# Altium footprint library Capacitor.PcbLib: 45 footprints (part 2 of 3)
Each footprint in its own frame and in the unit in brackets; x right, y up, seen from the top. Pads: shape width x height; smd on the part's side, far side on the other; paste and mask are expansions set on the pad; w line width, h text height; cw(c..) or ccw(c..) is an arc to the next point about the centre after c.
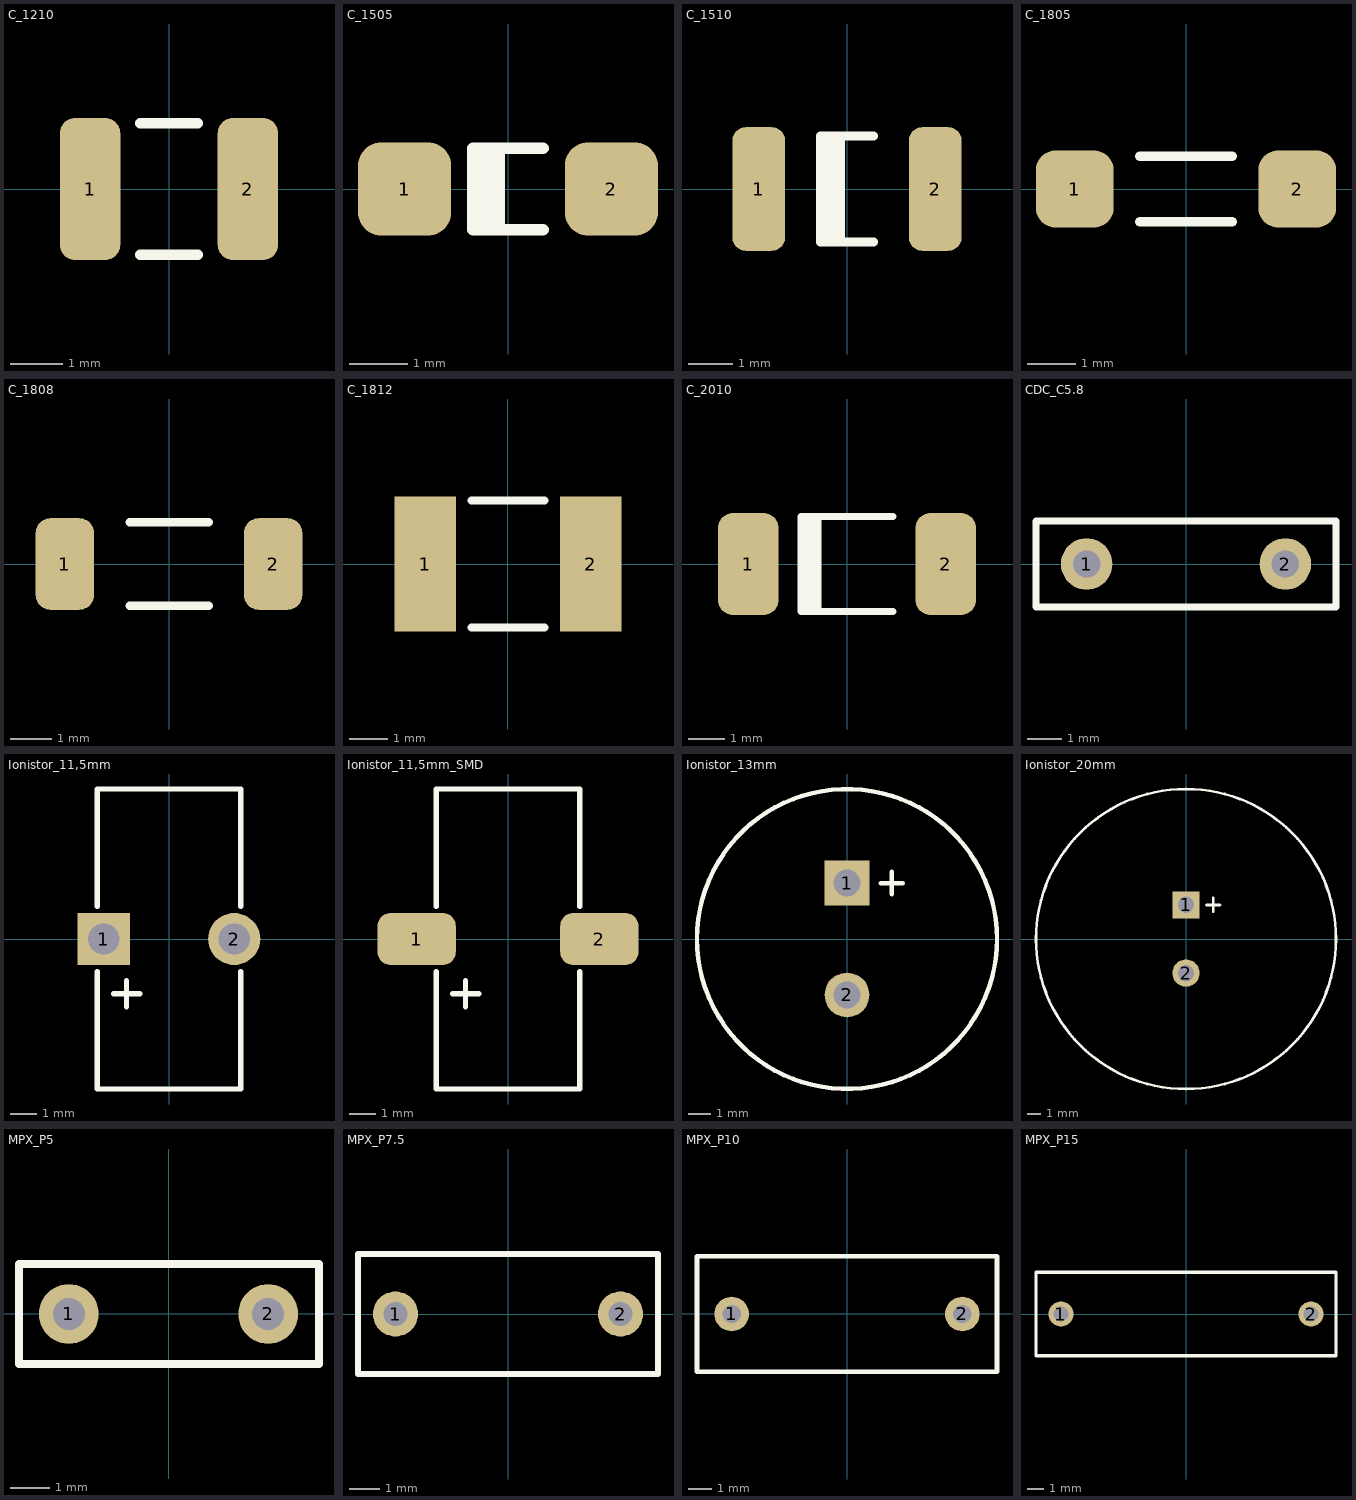
[diagram p1: the footprints below, top view; thin cyan lines are the x and y axes]

## C_1210 [mm] "Ceramic Capacitors SMD"
height 3.048
pads (2):
  rrect50% 1.15x2.7 smd: 1(-1.5,0) 2(1.5,0)
Top Overlay:
  lines w0.2: -0.55,-1.25 0.55,-1.25 ; -0.55,1.25 0.55,1.25
3D body: height 1, standoff 0, extent -1.7,-1.35 -1.2,1.35
3D body: height 1, standoff 0, extent 1.2,-1.35 1.7,1.35
3D body: height 1, standoff 0, extent -1.2,-1.35 1.2,1.35

## C_1505 [mm] "Ceramic Capacitors SMD"
height 3.048
pads (2):
  rrect50% 1.6x1.6 smd: 1(-1.775,0) 2(1.775,0)
Top Overlay:
  rectangle: -0.6,-0.7 -0.05,0.7
  lines w0.2: 0.6,-0.7 -0.6,-0.7 -0.6,0.7 0.6,0.7
3D body: height 1.65, standoff 0, extent 1.34,-0.825 2.1,0.825
3D body: height 1.65, standoff 0, extent -2.1,-0.825 -1.34,0.825
3D body: height 1.65, standoff 0, extent -1.34,-0.825 1.34,0.825

## C_1510 [mm] "Ceramic Capacitors SMD"
height 3.048
pads (2):
  rrect50% 1.2x2.8 smd: 1(-2,0) 2(2,0)
Top Overlay:
  rectangle: -0.6,-1.2 -0.05,1.2
  lines w0.2: 0.6,-1.2 -0.6,-1.2 -0.6,1.2 0.6,1.2
3D body: height 1.65, standoff 0, extent 1.34,-1.45 2.1,1.45
3D body: height 1.65, standoff 0, extent -2.1,-1.45 -1.34,1.45
3D body: height 1.65, standoff 0, extent -1.34,-1.45 1.34,1.45

## C_1805 [mm] "Ceramic Capacitors SMD"
height 3.048
pads (2):
  rrect50% 1.6x1.6 smd: 1(-2.3,0) 2(2.3,0)
Top Overlay:
  lines w0.2: -0.95,-0.675 0.95,-0.675 ; -0.95,0.675 0.95,0.675
3D body: height 1.4, standoff 0, extent -1.975,-0.825 1.975,0.825
3D body: height 1.4, standoff 0, extent -2.475,-0.825 -1.975,0.825
3D body: height 1.4, standoff 0, extent 1.975,-0.825 2.475,0.825

## C_1808 [mm] "Ceramic Capacitors SMD"
height 3.048
pads (2):
  rrect50% 1.4x2.2 smd: 1(-2.5,0) 2(2.5,0)
Top Overlay:
  lines w0.2: -0.95,-1 0.95,-1 ; -0.95,1 0.95,1
3D body: height 1, standoff 0, extent 2,-1.1 2.6,1.1
3D body: height 1, standoff 0, extent -2.6,-1.1 -2,1.1
3D body: height 1, standoff 0, extent -2,-1.1 2,1.1

## C_1812 [mm] "Ceramic Capacitors SMD"
height 3.048
pads (2):
  rect 1.6x3.5 smd: 1(-2.15,0) 2(2.15,0)
Top Overlay:
  lines w0.2: -0.95,-1.65 0.95,-1.65 ; -0.95,1.65 0.95,1.65
3D body: height 1, standoff 0, extent -1.8,-1.7 1.8,1.7
3D body: height 1, standoff 0, extent -2.4,-1.7 -1.8,1.7
3D body: height 1, standoff 0, extent 1.8,-1.7 2.4,1.7

## C_2010 [mm] "Ceramic Capacitors SMD"
height 3.048
pads (2):
  rrect50% 1.65x2.8 smd: 1(-2.7,0) 2(2.7,0)
Top Overlay:
  rectangle: -1.25,-1.3 -0.7,1.3
  lines w0.2: 1.25,-1.3 -1.25,-1.3 -1.25,1.3 1.25,1.3
3D body: height 1.65, standoff 0, extent 1.97,-1.45 2.73,1.45
3D body: height 1.65, standoff 0, extent -2.73,-1.45 -1.97,1.45
3D body: height 1.65, standoff 0, extent -1.97,-1.45 1.97,1.45

## CDC_C5.8 [mm] "Ceramic Capacitors Pin"
height 6
pads (2):
  round 1.5 hole 0.8: 1(-2.9,0) 2(2.9,0)
Top Overlay:
  lines w0.2: -4.375,-1.25 -4.375,1.25 4.375,1.25 4.375,-1.25 -4.375,-1.25
3D body "Ceramic_5mm.STEP": height 11, standoff -1.57, extent -4,-1.175 4,1.335

## Ionistor_11,5mm [mm] "Electrolytic Ionistor Pin"
height 12
pads (2):
  rect 2x2 hole 1.2: 1(-2.5,0)
  round 2 hole 1.2: 2(2.5,0)
Top Overlay:
  lines w0.2: -2.75,-1.25 -2.75,-5.75 0,-5.75 2.75,-5.75 2.75,-1.25 ; -2.75,1.25 -2.75,5.75 0,5.75 2.75,5.75 2.75,1.25 ; -2.125,-2.1 -1.125,-2.1 ; -1.625,-2.6 -1.625,-1.6

## Ionistor_11,5mm_SMD [mm] "Electrolytic Ionistor SMD"
height 12
pads (2):
  rrect50% 3x2 smd: 1(-3.5,0) 2(3.5,0)
Top Overlay:
  lines w0.2: -2.75,-1.25 -2.75,-5.75 0,-5.75 2.75,-5.75 2.75,-1.25 ; -2.75,1.25 -2.75,5.75 0,5.75 2.75,5.75 2.75,1.25 ; -2.125,-2.1 -1.125,-2.1 ; -1.625,-2.6 -1.625,-1.6
3D body: height 10.99, standoff 0.01, extent -2.525,-5.481 2.475,5.475

## Ionistor_13mm [mm] "Electrolytic Ionistor Pin"
height 10
pads (2):
  rect 2x2 hole 1.2: 1(0,2.5)
  round 2 hole 1.2: 2(0,-2.5)
Top Overlay:
  circle w0.2: c0,0 r6.7
  lines w0.2: 1.5,2.5 2.5,2.5 ; 2,2 2,3
3D body "Ionistor_13mm.STEP": height 10.5, standoff -2, extent -6.525,-6.525 6.525,6.525

## Ionistor_20mm [mm] "Electrolytic Ionistor Pin"
pads (2):
  rect 2x2 hole 1.2: 1(0,2.5)
  round 2 hole 1.2: 2(0,-2.5)
Top Overlay:
  circle w0.2: c0,0 r11
  lines w0.2: 1.5,2.5 2.5,2.5 ; 2,2 2,3
3D body "Ionistor_20mm.STEP": height 11.01, standoff -3, extent -10.738,-10.76 10.738,10.75

## MPX_P5 [mm] "Film Capacitors Pin"
height 6.5
pads (2):
  round 1.5 hole 0.8: 1(-2.5,0) 2(2.5,0)
Top Overlay:
  lines w0.2: -3.75,-1.25 3.775,-1.25 3.775,1.25 -3.75,1.25 -3.75,-1.25
3D body "MPX_P5.STEP": height 6.51, standoff -1.26, extent -3.785,-1.275 3.835,1.265

## MPX_P7.5 [mm] "Film Capacitors Pin"
height 8
pads (2):
  round 1.5 hole 0.8: 1(-3.75,0) 2(3.75,0)
Top Overlay:
  lines w0.2: -5,-2 -5,2 5,2 5,-2 -5,-2
3D body "MPX_P7.5.STEP": height 9.5, standoff -3, extent -5.05,-2 4.95,2

## MPX_P10 [mm] "Film Capacitors Pin"
height 11
pads (2):
  round 1.5 hole 0.8: 1(-5,0) 2(5,0)
Top Overlay:
  lines w0.2: -6.5,-2.5 6.5,-2.5 6.5,2.5 -6.5,2.5 -6.5,-2.5
3D body "MPX_P10.STEP": height 10.5, standoff -4.6, extent -6.5,-2 6.5,2

## MPX_P15 [mm] "Film Capacitors Pin"
height 11
pads (2):
  round 1.5 hole 0.9: 1(-7.5,0) 2(7.5,0)
Top Overlay:
  lines w0.2: -9,-2.5 -9,2.5 9,2.5 9,-2.5 -9,-2.5
3D body "MPX_P15.STEP": height 11, standoff -2.6, extent -9,-2.475 9,2.525